# Altium footprint library PCB - LEADLESS - QFN65P500X500X100-21N-D.PCBLIB: 1 footprints
Each footprint in its own frame and in the unit in brackets; x right, y up, seen from the top. Pads: shape width x height; smd on the part's side, far side on the other; paste and mask are expansions set on the pad; w line width, h text height; cw(c..) or ccw(c..) is an arc to the next point about the centre after c.
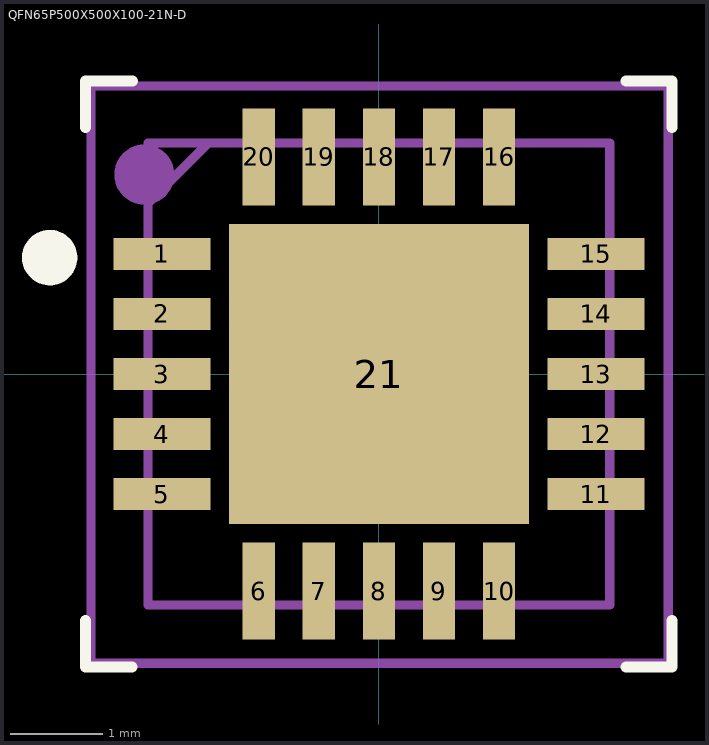
[diagram p0: the footprint, top view; thin cyan lines are the x and y axes]

## QFN65P500X500X100-21N-D [mm]
pads (21):
  rect 1.05x0.35 smd: 1(-2.35,1.3) 2(-2.35,0.65) 3(-2.35,0) 4(-2.35,-0.65) 5(-2.35,-1.3) 11(2.35,-1.3) 12(2.35,-0.65) 13(2.35,0) 14(2.35,0.65) 15(2.35,1.3)
  rect 0.35x1.05 smd: 6(-1.3,-2.35) 7(-0.65,-2.35) 8(0,-2.35) 9(0.65,-2.35) 10(1.3,-2.35) 16(1.3,2.35) 17(0.65,2.35) 18(0,2.35) 19(-0.65,2.35) 20(-1.3,2.35)
  rect 3.25x3.25 smd: 21(0,0)
Top Overlay:
  circle w0.3: c-3.565,1.26 r0.15
  lines w0.12: -3.175,-2.671 -3.175,-3.171 -2.675,-3.171 ; -3.175,2.671 -3.175,3.171 ; -3.168,3.171 -2.668,3.171 ; 2.675,-3.171 3.175,-3.171 3.175,-2.671 ; 2.675,3.171 3.175,3.171 3.175,2.671
Top Assembly Drawing:
  circle w0.325: c-2.54,2.159 r0.162
  lines w0.1: -3.117,-3.133 -3.117,3.117 3.133,3.117 3.133,-3.133 -3.117,-3.133
  text ".Designator" at -1.389,-1.736 h1.02
Mechanical 15:
  lines w0.1: -2.5,1.85 -1.85,2.5 ; -2.5,-2.5 -2.5,2.5 2.5,2.5 2.5,-2.5 -2.5,-2.5
Mechanical 20:
  lines w0.05: -3.125,-3.125 -3.125,3.125 3.125,3.125 3.125,-3.125 -3.125,-3.125